# Altium footprint library moma_altium_PCBlibrary.PcbLib: 6 footprints
Each footprint in its own frame and in the unit in brackets; x right, y up, seen from the top. Pads: shape width x height; smd on the part's side, far side on the other; paste and mask are expansions set on the pad; w line width, h text height; cw(c..) or ccw(c..) is an arc to the next point about the centre after c.
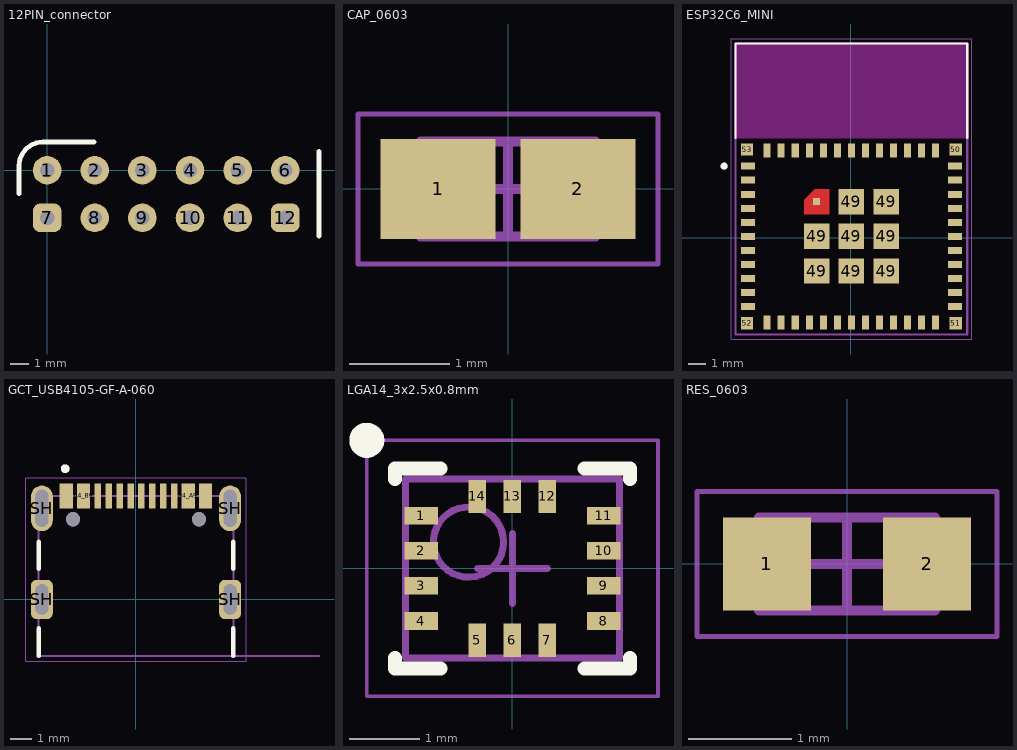
[diagram p0: the footprints below, top view; thin cyan lines are the x and y axes]

## 12PIN_connector [mil]
pads (12):
  round 60 hole 30: 1(0,0) 2(100,0) 3(200,0) 4(300,0) 5(400,0) 6(500,0) 8(100,-100) 9(200,-100) 10(300,-100) 11(400,-100)
  rrect50% 60x60 hole 30: 7(0,-100) 12(500,-100)
Top Overlay:
  lines w10: -59.06,-49.21 -59.06,9.06 cw(c-9.06,9.06) -9.06,59.06 98.43,59.06 ; 570.87,-137.8 570.87,39.37

## CAP_0603 [mm]
height 1
pads (2):
  rect 1.15x1 smd: 1(-0.7,0) 2(0.7,0)
Mechanical 13:
  lines w0.1: -0.875,-0.475 -0.875,0.475 0.875,0.475 0.875,-0.475 -0.875,-0.475
Mechanical 15:
  lines w0.05: -1.5,-0.75 -1.5,0.75 1.5,0.75 1.5,-0.75 -1.5,-0.75
  lines w0.1: -0.475,0 0.475,0 ; 0,-0.475 0,0.475
3D body "CAP_0603.step": height 1, standoff 0, extent -0.875,-0.475 0.875,0.475

## ESP32C6_MINI [mm] "Footprint for ESP32-C6-mini module"
pads (61):
  rect 0.8x0.4 smd: 1(-5.855,4.065) 2(-5.855,3.265) 3(-5.855,2.465) 4(-5.855,1.665) 5(-5.855,0.865) 6(-5.855,0.065) 7(-5.855,-0.735) 8(-5.855,-1.535) 9(-5.855,-2.335) 10(-5.855,-3.135) 11(-5.855,-3.935) 25(5.945,-3.935) 26(5.945,-3.135) 27(5.945,-2.335) 28(5.945,-1.535) 29(5.945,-0.735) 30(5.945,0.065) 31(5.945,0.865) 32(5.945,1.665) 33(5.945,2.465) 34(5.945,3.265) 35(5.945,4.065)
  rect 0.4x0.8 smd: 12(-4.755,-4.835) 13(-3.955,-4.835) 14(-3.155,-4.835) 15(-2.355,-4.835) 16(-1.555,-4.835) 17(-0.755,-4.835) 18(0.045,-4.835) 19(0.845,-4.835) 20(1.645,-4.835) 21(2.445,-4.835) 22(3.245,-4.835) 23(4.045,-4.835) 24(4.845,-4.835) 36(4.845,4.965) 37(4.045,4.965) 38(3.245,4.965) 39(2.445,4.965) 40(1.645,4.965) 41(0.845,4.965) 42(0.045,4.965) 43(-0.755,4.965) 44(-1.555,4.965) 45(-2.355,4.965) 46(-3.155,4.965) 47(-3.955,4.965) 48(-4.755,4.965)
  rect 1.45x1.45 smd: 49(-1.93,-1.91) 49(-1.93,0.065) 49(0.045,-1.91) 49(0.045,0.065) 49(0.045,2.04) 49(2.02,-1.91) 49(2.02,0.065) 49(2.02,2.04)
  rect 0.4x0.4 smd paste-1 mask+0: 49(-1.93,2.04)
  rect 0.7x0.7 smd: 50(5.995,5.015) 51(5.995,-4.885) 52(-5.905,-4.885) 53(-5.905,5.015)
Top Layer:
  region: -1.205,1.315 -2.655,1.315 -2.655,2.165 -2.055,2.765 -1.205,2.765
Top Overlay:
  circle w0.2: c-7.205,4.065 r0.1
  lines w0.127: -6.555,5.685 -6.555,11.065 6.645,11.065 6.645,5.685
Top Paste:
  region: -1.205,1.315 -2.655,1.315 -2.655,2.165 -2.055,2.765 -1.205,2.765
Top Solder:
  region: -1.105,1.215 -2.755,1.215 -2.755,2.215 -2.105,2.865 -1.105,2.865
Keep-Out Layer:
  region: 6.645,5.665 -6.555,5.665 -6.555,11.065 6.645,11.065
Mechanical 13:
  circle w0.2: c-7.205,4.065 r0.1
  lines w0.127: -6.555,-5.535 -6.555,11.065 6.645,11.065 6.645,-5.535 -6.555,-5.535
Mechanical 15:
  lines w0.05: -6.805,-5.785 6.895,-5.785 6.895,11.315 -6.805,11.315 -6.805,-5.785
3D body "step_temp.STEP": height 2.55, standoff 0, extent -6.55,-5.525 6.65,11.075

## GCT_USB4105-GF-A-060 [mm]
height 3.31
pads (18):
  rect 0.6x1.15 smd: A1_B12(-3.2,4.755) A4_B9(-2.4,4.755) B1_A12(3.2,4.755) B4_A9(2.4,4.755)
  rect 0.3x1.15 smd: A5(-1.25,4.755) A6(-0.25,4.755) A7(0.25,4.755) A8(1.25,4.755) B5(1.75,4.755) B6(0.75,4.755) B7(-0.75,4.755) B8(-1.75,4.755)
  rrect50% 1x1.8 hole 0.6 slot 1.4 at 90 deg: SH(-4.32,0) SH(4.32,0)
  oval 1x2.1 hole 0.6 slot 1.7 at 90 deg: SH(-4.32,4.18) SH(4.32,4.18)
  round 0.65 hole 0.65 unplated: ""(-2.89,3.68) ""(2.89,3.68)
Top Overlay:
  circle w0.2: c-3.25,6 r0.1
  lines w0.2: -4.47,-2.6 -4.47,-1.32 ; -4.47,1.4 -4.47,2.65 ; 4.47,-2.6 4.47,-1.32 ; 4.47,1.4 4.47,2.65
Mechanical 13:
  circle w0.2: c-3.25,6 r0.1
  lines w0.1: 8.4,-2.6 4.47,-2.6 ; 4.47,-2.6 -4.47,-2.6 -4.47,4.75 4.47,4.75 4.47,-2.6
  text "PCB EDGE" at 5.4,-2.5 h0.41
Mechanical 15:
  lines w0.05: -5.07,-2.85 5.07,-2.85 5.07,5.58 -5.07,5.58 -5.07,-2.85
3D body "step_temp.STEP": height 3.31, standoff -0.85, extent -4.47,-2.6 4.47,5.11

## LGA14_3x2.5x0.8mm [mm] "LGA, 14-Leads, Body 3.00x2.50mm, Pitch 0.50mm, Thermal Pad 0.10x0.10mm, IPC Medium Density"
height 0.87
pads (14):
  rect 0.475x0.25 smd mask+0.102: 1(-1.3,0.75)
  rect 0.475x0.25 smd: 2(-1.3,0.25) 3(-1.3,-0.25) 4(-1.3,-0.75) 8(1.3,-0.75) 9(1.3,-0.25) 10(1.3,0.25) 11(1.3,0.75)
  rect 0.25x0.475 smd: 5(-0.5,-1.025) 6(0,-1.025) 7(0.5,-1.025) 12(0.5,1.025) 13(0,1.025) 14(-0.5,1.025)
Top Overlay:
  circle w0.25: c-2.075,1.825 r0.125
  lines w0.2: -1.675,-1.275 -1.675,-1.425 -1.025,-1.425 ; -1.675,1.275 -1.675,1.425 -1.025,1.425 ; 1.025,-1.425 1.675,-1.425 1.675,-1.275 ; 1.025,1.425 1.675,1.425 1.675,1.275
Mechanical 13:
  circle w0.1: c-0.625,0.375 r0.5
  lines w0.1: -1.525,-1.275 1.525,-1.275 1.525,1.275 -1.525,1.275 -1.525,-1.275
Mechanical 15:
  lines w0.05: -2.075,-1.825 2.075,-1.825 2.075,1.825 -2.075,1.825 -2.075,-1.825
  lines w0.1: -0.5,0 0.5,0 ; 0,-0.5 0,0.5
3D body "LGA14_3x2.5x0.8mm.step": height 0.87, standoff 0, extent -1.635,-1.385 1.635,1.385

## RES_0603 [mm] "Chip Resistor, 2-Leads, Body 1.60x0.80mm, IPC Medium Density"
height 0.55
pads (2):
  rect 0.85x0.9 smd: 1(-0.775,0) 2(0.775,0)
Mechanical 13:
  lines w0.1: -0.85,-0.45 0.85,-0.45 0.85,0.45 -0.85,0.45 -0.85,-0.45
Mechanical 15:
  lines w0.05: -1.45,-0.7 1.45,-0.7 1.45,0.7 -1.45,0.7 -1.45,-0.7
  lines w0.1: -0.45,0 0.45,0 ; 0,-0.45 0,0.45
3D body "RES_0603.step": height 0.55, standoff 0, extent -0.85,-0.45 0.85,0.45